# Altium schematic symbol library Schlib1.SchLib: 35 symbols
Pins are listed as number, name and electrical type; pins without a type are passive.

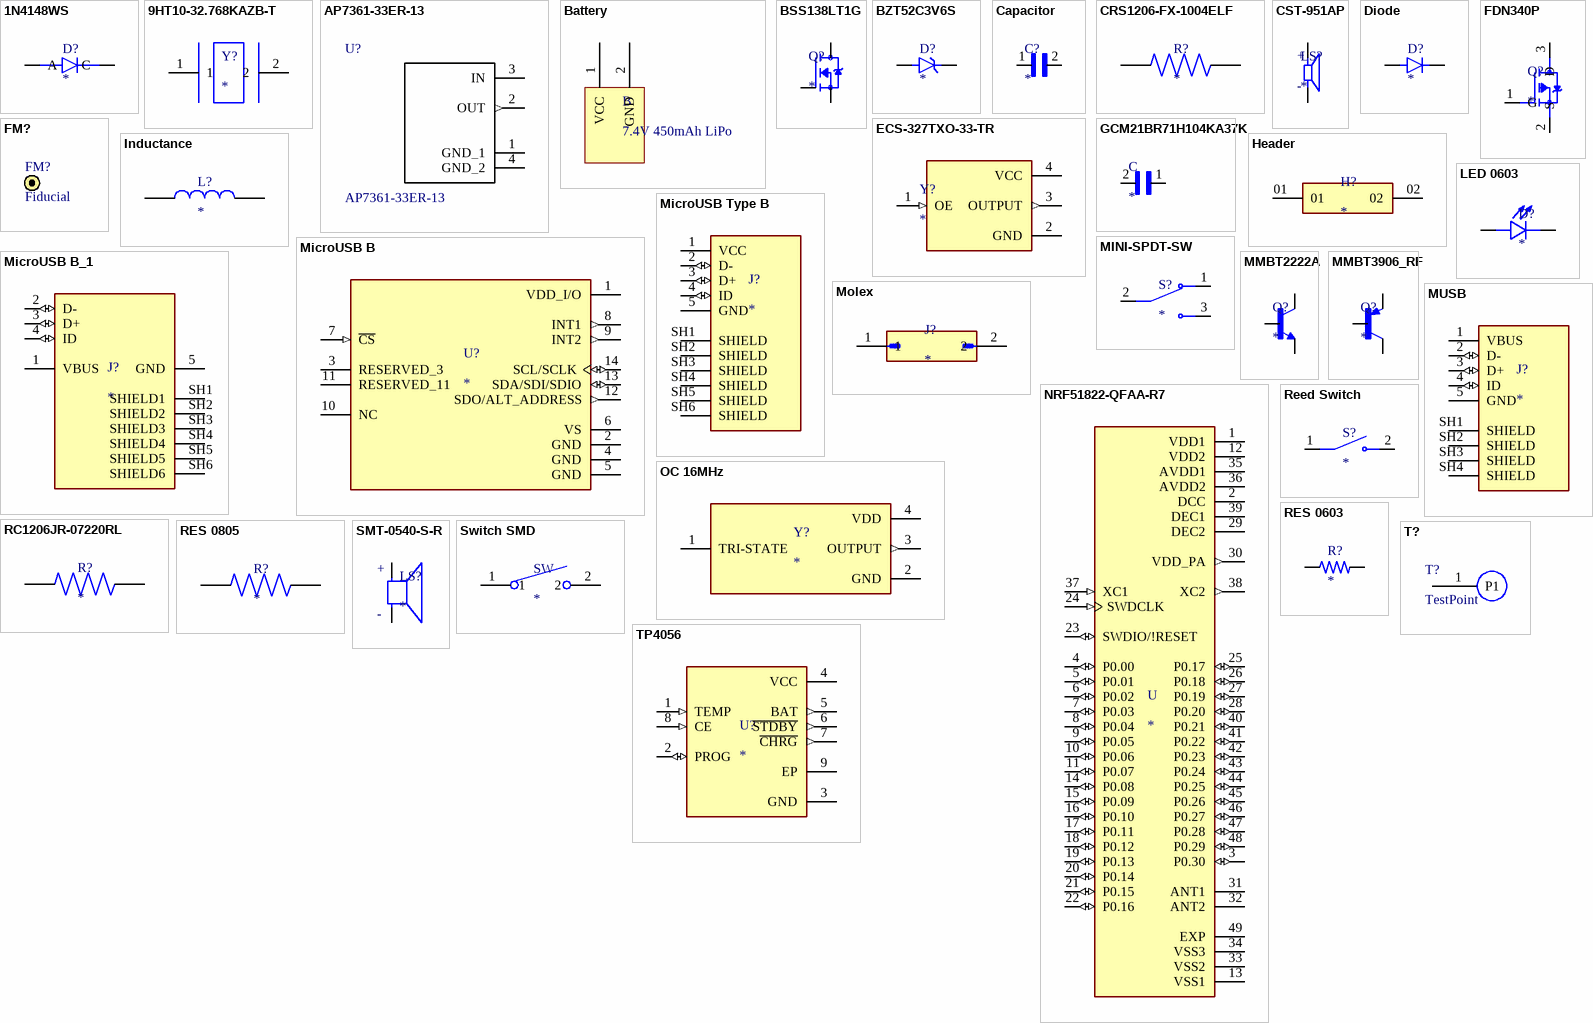
[diagram p0: symbols 1N4148WS to TP4056]

## 1N4148WS
designator D?
1N4148WS, SOD-323F, 100V, 0,15A, 150°C; MF: Diotec Semiconductor; SnapEDA_Link: https://www.snapeda.com/parts/1N4148WS/Diotec/view-part/?ref=snap; Package: SOD-323F Diotec; Value: *; MP: 1N4148WS; Check_prices: https://www.snapeda.com/parts/1N4148WS/Diotec/view-part/?ref=eda
footprint SODFL2512X100N
footprint 1N4148WS (SOD323)
pins: A, C

## 9HT10-32.768KAZB-T
designator Y?
Crystal, 32.768khz, 12.5pf, 3.2 x 1.5mm; MP: 9HT10-32.768KAZB-T; Package: None; Price: None; Value: *; Availability: Unavailable
footprint XTAL320X150X75
footprint XTAL320X150X75
pins: 1, 2

## AP7361-33ER-13
designator U?
SnapEDA_Link: https://www.snapeda.com/parts/AP7361-33ER-13/Diodes+Inc./view-part/?ref=snap; Check_prices: https://www.snapeda.com/parts/AP7361-33ER-13/Diodes+Inc./view-part/?ref=eda; Value: *
footprint *SOT230P700X180-4N
pins: 1 GND_1 (power), 2 OUT (out), 3 IN (power), 4 GND_2 (power)

## Battery
designator B, comment 7.4V 450mAh LiPo
3.7V 500 mAH LiPo Battery
footprint Battery
pins: 1 VCC, 2 GND

## BSS138LT1G
designator Q?
N-Channel 50 V 200mA (Ta) 225mW (Ta) Surface Mount SOT-23-3 (TO-236); MF: onsemi; MP: BSS138LT1G; SnapEDA_Link: https://www.snapeda.com/parts/BSS138LT1G/Onsemi/view-part/?ref=snap; Package: SOT-23-3 Motorola; Value: *; Check_prices: https://www.snapeda.com/parts/BSS138LT1G/Onsemi/view-part/?ref=eda
footprint SOT95P237X111-3N
pins: 1 G, 2 S, 3 D

## BZT52C3V6S
designator D?
Zener Diode 3.6 V 200 mW Â±5% Surface Mount SOD-323F; MF: Taiwan Semiconductor; MP: BZT52C3V6S; SnapEDA_Link: https://www.snapeda.com/parts/BZT52C3V6S/Taiwan+Semiconductor/view-part/?ref=snap; Package: SOD-323F-2 Taiwan Semiconductor; Value: *; Check_prices: https://www.snapeda.com/parts/BZT52C3V6S/Taiwan+Semiconductor/view-part/?ref=eda
footprint DIO_BZT52C3V6S
pins: A, C K

## Capacitor
designator C?
CAP 0603 0.1uF; MP: VJ0603D100MXCAP; Package: None; Price: None; Value: *; Availability: Unavailable
footprint CAPC1608X94N
footprint CAPC1608X94N
pins: 1, 2

## CRS1206-FX-1004ELF
designator R?
RESISTOR, THICK FILM, 1M, 1%, 1206; MP: CRS1206-FX-1004ELF; Package: None; Price: None; Value: *; Availability: Unavailable
footprint RESC3116X65N
pins: 1, 2

## CST-951AP
designator LS?
9 mm, 5 V, 85 dB, Through Hole, Magnetic Audio Transducer Buzzer; MP: CST-951AP; Availability: Unavailable; Price: None; Value: *; Package: None
footprint CUI_CST-951AP
pins: M, P
text: +; -

## Diode
designator D?
1A, 50V - 1000V Fast Surface Mount Rectifier; MF: Taiwan Semiconductor; MP: RS1D; Package: DO-214AC-2 Taiwan Semiconductor; Price: None; Check_prices: https://www.snapeda.com/parts/RS1D/Taiwan+Semiconductor/view-part/?ref=eda; Value: *; SnapEDA_Link: https://www.snapeda.com/parts/RS1D/Taiwan+Semiconductor/view-part/?ref=snap; Availability: In Stock; Purchase-URL: https://pricing.snapeda.com/search/part/RS1D/?ref=eda
footprint DIOM4330X250N
pins: A, C K

## ECS-327TXO-33-TR
designator Y?
Oscillator TCXO 0.032768MHz Â±1.5ppm (Tol) Â±5ppm (Stability) 15pF CMOS 60% 3V 4-Pin CSMD T/R; MP: ECS-327TXO-33-TR; Package: None; Price: None; Value: *; Availability: Unavailable
footprint OSC_ECS-327TXO-33-TR
pins: 1 OE (in), 2 GND (power), 3 OUTPUT (out), 4 VCC (power)

## FDN340P
designator Q?
FDN340P Series 20V 70 mOhm Single P-Ch Logic Level PowerTrench Mosfet SSOT-3; Price: None; MP: FDN340P; Availability: Unavailable; Value: *; Package: None
footprint SOT95P240X120-3N
pins: 1 G, 2 S, 3 D

## FM?
designator FM?, comment Fiducial
footprint Fiducial

## GCM21BR71H104KA37K
designator C
SMD Capacitor X7R(EIA) with Capacitance: 0.10uF Tol. 10%. Rated Voltage: 50Vdc; MP: GCM21BR71H104KA37K; MF: Murata; SnapEDA_Link: https://www.snapeda.com/parts/GCM21BR71H104KA37K/Murata%20Electronics%20North%20America/view-part/1764792/?ref=snap; Value: *; Price: None; Arrow_Electronics-Purchase-URL: https://snapeda.com/shop?store=Arrow+Electronics&id=1764792; Availability: Good; Package: 0805 Murata; DigiKey-Purchase-URL: https://snapeda.com/shop?store=DigiKey&id=1764792
footprint CAPC2012X135N
pins: 1, 2

## Header
designator H?
Connector Header Through Hole 2 position; MF: Samtec; MP: TMS-101-51-G-D; Availability: In Stock; SnapEDA_Link: https://www.snapeda.com/parts/TMS-101-51-G-D/Samtec/view-part/?ref=snap; Price: None; Check_prices: https://www.snapeda.com/parts/TMS-101-51-G-D/Samtec/view-part/?ref=eda; Package: None; Value: *; Purchase-URL: https://pricing.snapeda.com/search/part/TMS-101-51-G-D/?ref=eda
footprint SAMTEC_TMS-101-51-G-D
pins: 01, 02

## Inductance
designator L?
Inductor with Inductance 10uH Tol.+/-20% Package 0603 (1608); MP: LQM18DN100M70L; MF: Murata Electronics; Price: None; SnapEDA_Link: https://www.snapeda.com/parts/LQM18DN100M70L/Murata/view-part/4834755/?ref=snap; Package: 0603 Murata; Availability: Unavailable; Value: *
footprint INDC1608X95N
pins: 1, 2

## LED 0603
designator D?
LED; SMD; 0603; red; 50-150mcd; 1.6x0.8mm; 120Â°; 20mA;; MF: Kingbright; MP: KP-1608SURCK; SnapEDA_Link: https://www.snapeda.com/parts/KP-1608SURCK/Kingbright/view-part/?ref=snap; Package: 0603 Kingbright; Value: *; Check_prices: https://www.snapeda.com/parts/KP-1608SURCK/Kingbright/view-part/?ref=eda
footprint LED_KP-1608SURCK
pins: 1 A, 2 C

## MicroUSB B
designator U?
Accelerometer X, Y, Z Axis ±2g, 4g, 8g, 16g 0.05Hz ~ 1.6kHz 14-LGA (3x5); MF: Analog Devices, Inc.; MP: ADXL345; SnapEDA_Link: https://www.snapeda.com/parts/ADXL345/Analog+Devices/view-part/?ref=snap; Package: LGA -14 Analog Devices; Value: *; Check_prices: https://www.snapeda.com/parts/ADXL345/Analog+Devices/view-part/?ref=eda
footprint PQFN80P500X300X100-14N
pins: 1 VDD_I/O (power), 2 GND (power), 3 RESERVED_3, 4 GND (power), 5 GND (power), 6 VS (power), 7 ~{CS} (in), 8 INT1 (out), 9 INT2 (out), 10 NC, 11 RESERVED_11, 12 SDO/ALT_ADDRESS (out), 13 SDA/SDI/SDIO (io), 14 SCL/SCLK (io)

## MicroUSB B_1
designator J?
Micro-USB B Receptacle, Bottom Mount, Surface Mount with Solder Tabs, Lead-Free; MF: Molex; MP: 1050170002; SnapEDA_Link: https://www.snapeda.com/parts/1050170002/Molex/view-part/?ref=snap; Package: None; Value: *; Check_prices: https://www.snapeda.com/parts/1050170002/Molex/view-part/?ref=eda
footprint MOLEX_1050170002
pins: 1 VBUS (power), 2 D- (io), 3 D+ (io), 4 ID (io), 5 GND (power), SH1 SHIELD1, SH2 SHIELD2, SH3 SHIELD3, SH4 SHIELD4, SH5 SHIELD5, SH6 SHIELD6

## MicroUSB Type B
designator J?
Micro USB, Input Output Connectors, B TYPE RECEPTACLE with flange; MF: Amphenol ICC; MP: 10118194-0001LF; SnapEDA_Link: https://www.snapeda.com/parts/10118194-0001LF/Amphenol+FCI/view-part/?ref=snap; Package: None; Value: *; Check_prices: https://www.snapeda.com/parts/10118194-0001LF/Amphenol+FCI/view-part/?ref=eda
footprint AMPHENOL_10118194-0001LF
pins: 1 VCC (power), 2 D- (io), 3 D+ (io), 4 ID (io), 5 GND (power), SH1 SHIELD, SH2 SHIELD, SH3 SHIELD, SH4 SHIELD, SH5 SHIELD, SH6 SHIELD

## MINI-SPDT-SW
designator S?
Simple breadboard friendly SPDT slide switch. Rated at 30V/200mA with operating force of 250 +/-100gf.; MP: MINI-SPDT-SW; Availability: Unavailable; Package: None; Value: *; Price: None
footprint SW_MINI-SPDT-SW
footprint SW_MINI-SPDT-SW
pins: 1, 2, 3

## MMBT2222A
designator Q?
BJT, SOT-23, 40V, 600mA, NPN, 0.25W, 150°C; MF: Diotec Semiconductor; MP: MMBT2222A; SnapEDA_Link: https://www.snapeda.com/parts/MMBT2222A/Diotec/view-part/?ref=snap; Package: SOT-23 Diotec; Value: *; Check_prices: https://www.snapeda.com/parts/MMBT2222A/Diotec/view-part/?ref=eda
footprint SOT95P240X120-3N
pins: 1 B, 2 E, 3 C

## MMBT3906_RF
designator Q?
SOT-23, -40V, -0.2A, PNP Bipolar Transistor; MF: Taiwan Semiconductor; MP: MMBT3906 RF; Value: *; Price: None; Package: SOT-23-3 Taiwan Semiconductor; Check_prices: https://www.snapeda.com/parts/MMBT3906%20RF/Taiwan+Semiconductor/view-part/?ref=eda; Purchase-URL: https://pricing.snapeda.com/search/part/MMBT3906 RF/?ref=eda; SnapEDA_Link: https://www.snapeda.com/parts/MMBT3906%20RF/Taiwan+Semiconductor/view-part/?ref=snap; Availability: In Stock
footprint SOT95P237X112-3N
pins: 1 B, 2 E, 3 C

## Molex
designator J?
MP: 430450227; Price: None; Availability: Unavailable; Value: *; Package: None
footprint MOLEX_430450227
pins: 1, 2

## MUSB
designator J?
USB - mini B USB 2.0 Receptacle Connector 5 Position Surface Mount, Right Angle; MF: Samtec; MP: MUSB-05-F-B-SM-A-R-K-TR; SnapEDA_Link: https://www.snapeda.com/parts/MUSB-05-F-B-SM-A-R-K-TR/Samtec/view-part/?ref=snap; Package: None; Value: *; Check_prices: https://www.snapeda.com/parts/MUSB-05-F-B-SM-A-R-K-TR/Samtec/view-part/?ref=eda
footprint SAMTEC_MUSB-05-X-B-SM-A-R-K-TR
pins: 1 VBUS (power), 2 D- (io), 3 D+ (io), 4 ID (io), 5 GND (power), SH1 SHIELD, SH2 SHIELD, SH3 SHIELD, SH4 SHIELD

## NRF51822-QFAA-R7
designator U
IC RF TxRx + MCU Bluetooth, General ISM > 1GHz Bluetooth v4.0 2.4GHz 48-VFQFN Exposed Pad; MF: Nordic; MP: NRF51822-QFAA-R7; Digi-Key_Part_Number: 1490-1031-1-ND; SnapEDA_Link: https://www.snapeda.com/parts/NRF51822-QFAA-R7/Nordic%20Semiconductor%20ASA/view-part/50620/?ref=snap; Value: *; Package: VFQFN-48 Nordic Semiconductor; Digi-Key_Purchase_URL: https://www.digikey.com/product-detail/en/nordic-semiconductor-asa/NRF51822-QFAA-R7/1490-1031-1-ND/4626399?utm_source=snapeda&utm_medium=aggregator&utm_campaign=symbol
footprint QFN40P600X600X90-49N
pins: 1 VDD1 (power), 2 DCC (power), 3 P0.30 (io), 4 P0.00 (io), 5 P0.01 (io), 6 P0.02 (io), 7 P0.03 (io), 8 P0.04 (io), 9 P0.05 (io), 10 P0.06 (io), 11 P0.07 (io), 12 VDD2 (power), 13 VSS1 (power), 14 P0.08 (io), 15 P0.09 (io), 16 P0.10 (io), 17 P0.11 (io), 18 P0.12 (io), 19 P0.13 (io), 20 P0.14 (io), 21 P0.15 (io), 22 P0.16 (io), 23 SWDIO/!RESET (io), 24 SWDCLK (in), 25 P0.17 (io), 26 P0.18 (io), 27 P0.19 (io), 28 P0.20 (io), 29 DEC2 (power), 30 VDD_PA (out), 31 ANT1, 32 ANT2, 33 VSS2 (power), 34 VSS3 (power), 35 AVDD1 (power), 36 AVDD2 (power), 37 XC1 (in), 38 XC2 (out), 39 DEC1 (power), 40 P0.21 (io), 41 P0.22 (io), 42 P0.23 (io), 43 P0.24 (io), 44 P0.25 (io), 45 P0.26 (io), 46 P0.27 (io), 47 P0.28 (io), 48 P0.29 (io), 49 EXP (power)

## OC 16MHz
designator Y?
MP: ASFL1-16.000MHZ-EC-T; Price: None; Availability: Unavailable; Value: *; Package: None
footprint XTAL_ASFL1-16.000MHZ-EC-T
pins: 1 TRI-STATE, 2 GND (power), 3 OUTPUT (out), 4 VDD (power)

## RC1206JR-07220RL
designator R?
220 Ohms Â±5% 0.25W, 1/4W Chip Resistor 1206 (3216 Metric) Thick Film; MF: Yageo; MP: RC1206JR-07220RL; Digi-Key_Part_Number: 311-220ERCT-ND; Package: 3116 Yageo; Check_prices: https://www.snapeda.com/parts/RC1206JR-07220RL/Yageo/view-part/615364/?ref=eda; Value: *; SnapEDA_Link: https://www.snapeda.com/parts/RC1206JR-07220RL/Yageo/view-part/615364/?ref=snap
footprint RESC3116X65N
pins: 1, 2

## Reed Switch
designator S?
Reed Switch; MP: PMC-1001S1015; Price: None; Package: None; Value: *; Availability: Unavailable
footprint SW_PMC-1001S1015
pins: 1 COM, 2 NO

## RES 0603
designator R?
RES 0603; MP: 4-2176243-5; Package: None; Price: None; Value: *; Availability: Unavailable
footprint RESC1608X50N
footprint RESC1608X50N
pins: 1, 2

## RES 0805
designator R?
RN 0805 1K5 0.1% 10PPM 1KRL; MP: RN73C2A1K5BTDF; Package: None; Price: None; Value: *; Availability: Unavailable
footprint RESC2012X65N
footprint RESC2012X65N
pins: 1, 2

## SMT-0540-S-R
designator LS?
MF: {'manufacturer': u'PUI Audio, Inc.'}; MP: SMT-0540-S-R; Package: None; Price: None; Value: *; Availability: Unavailable
footprint XDCR_SMT-0540-S-R
pins: LEAD+ POS, LEAD- NEG
text: +; -

## Switch SMD
designator SW
Tactile Switch SPST-NO Top Actuated Surface Mount; MF: C&K; MP: RS032G05A3SMRT; Package: None; Value: *; Availability: Unavailable; SnapEDA_Link: https://www.snapeda.com/parts/RS032G05A3SMRT/C%26K/view-part/578384/?ref=snap; Price: None
footprint SW_RS-032G05A3-SMRT
pins: 1, 2

## T?
designator T?, comment TestPoint  (no BOM)
footprint Testpoint1
pins: 1 P1

## TP4056
designator U?
Complete single cell Li-Ion battery with a constant current / constant voltage linear charger; MF: NanJing Top Power ASIC Corp.; MP: TP4056; Check_prices: https://www.snapeda.com/parts/TP4056/NanJing+Top+Power+ASIC+Corp./view-part/?ref=eda; SnapEDA_Link: https://www.snapeda.com/parts/TP4056/NanJing+Top+Power+ASIC+Corp./view-part/?ref=snap; Price: None; Availability: Not in stock; Package: Package; Value: *
footprint SOP127P600X175-9N
pins: 1 TEMP (in), 2 PROG (io), 3 GND (power), 4 VCC (power), 5 BAT (out), 6 ~{STDBY} (out), 7 ~{CHRG} (out), 8 CE (in), 9 EP